# Altium schematic symbol library Module-Cam.SchLib: 1 symbol
Pins are listed as number, name and electrical type; pins without a type are passive.

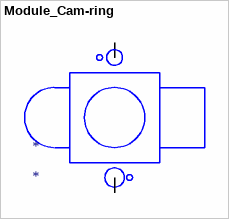
[diagram p0: symbol Module_Cam-ring]

## Module_Cam-ring
designator *
Manufacturer_Name: *; Manufacturer_Part_Number: *; LCSC: *; Manufacturer_Name_1: *; Manufacturer_Part_Number_1: *
footprint Cam-Socket-ring (20mm孔距)
pins: 1, 2